# Altium schematic symbol library Opto.SchLib: 1 symbol
Pins are listed as number, name and electrical type; pins without a type are passive.

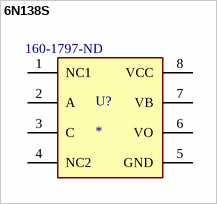
[diagram p0: symbol 6N138S]

## 6N138S
designator U?  Supplier Part Number 1: 160-1797-ND
Optoisolator Darlington with Base Output 5000Vrms 1 Channel 8-SMD; MP: 6N138S; MF: ON Semiconductor; SnapEDA_Link: https://www.snapeda.com/parts/6N138S/Onsemi/view-part/560668/?ref=snap; Check_prices: https://www.snapeda.com/parts/6N138S/Onsemi/view-part/560668/?ref=eda; Price: None; Availability: In Stock; Purchase-URL: https://pricing.snapeda.com/search/part/6N138S/?ref=eda; Package: SMD-8 ON Semiconductor; Value: *; Supplier 1: Digi-Key
footprint SMDIP8
pins: 1 NC1, 2 A, 3 C, 4 NC2, 5 GND, 6 VO, 7 VB, 8 VCC